# EAGLE library part AD5290 (library analog-devices)
AD5290 SPI Interface Digital POT MSOP10 Package 10k, 50k, 100k +- 15V range 256 TAPS
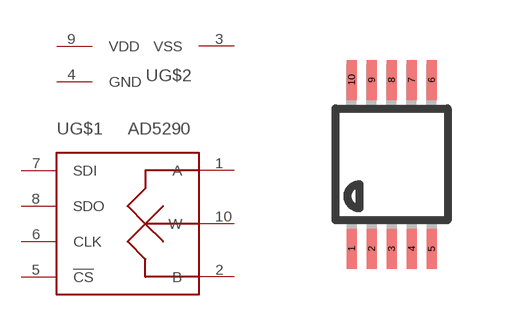
[diagram p49: symbol with the pads of MSOP10; footprint MSOP10]

Designator prefix -; gates G$1=AD5290 G$2=VDDVSSGND

## AD5290  [MSOP10]
1  G$1:A
2  G$1:B
3  G$2:VSS  pwr
4  G$2:GND  pwr
5  G$1:!CS
6  G$1:CLK
7  G$1:SDI
8  G$1:SDO
9  G$2:VDD  pwr
10  G$1:W

## Footprint MSOP10 (pad centres in mm)
10-Lead Mini Small Outline Package [MSOP] (RM-10) Source: http://www.analog.com/UploadedFiles/Data_Sheets/35641221898805SSM2167_b.pdf COMPLIANT TO JEDEC STANDARDS MO-187BA
smd 0.25 x 1: 1 -1,-2.113; 2 -0.5,-2.113; 3 0,-2.113; 4 0.5,-2.113; 5 1,-2.113; 6 1,2.113; 7 0.5,2.113; 8 0,2.113; 9 -0.5,2.113; 10 -1,2.113